# EAGLE library part MAXIM_BY_ELEMENT14_BATCH_1_DS1338Z-33+ (library Mainboard)
I2C RTC with 56-Byte NV RAM
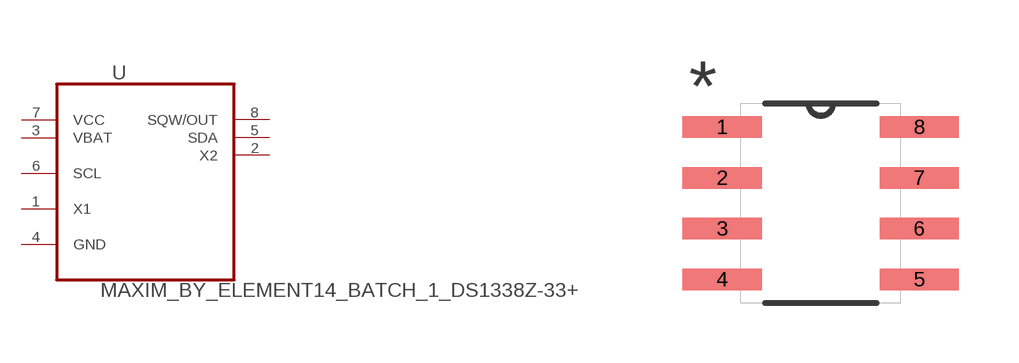
[diagram p1: symbol with the pads of MAXIM_BY_ELEMENT14_BATCH_1_SOIC127P600X175-8N; footprint MAXIM_BY_ELEMENT14_BATCH_1_SOIC127P600X175-8N]

Designator prefix U

## MAXIM_BY_ELEMENT14_BATCH_1_DS1338Z-33+ (MPN: DS1338Z-33+; OC_FARNELL: 1379714; OC_NEWARK: 27K7425; PACKAGE: SOIC-8; SUPPLIER: Maxim)  [MAXIM_BY_ELEMENT14_BATCH_1_SOIC127P600X175-8N]
1  X1  in
2  X2  out
3  VBAT  pwr
4  GND  pas
5  SDA
6  SCL  in
7  VCC  pwr
8  SQW/OUT  out

## Footprint MAXIM_BY_ELEMENT14_BATCH_1_SOIC127P600X175-8N (pad centres in mm)
smd 1.981 x 0.533: 1 -2.464,1.905; 2 -2.464,0.635; 3 -2.464,-0.635; 4 -2.464,-1.905; 5 2.464,-1.905; 6 2.464,-0.635; 7 2.464,0.635; 8 2.464,1.905